# EAGLE library part DAC7612 (library Zoli2_2015-01-28)
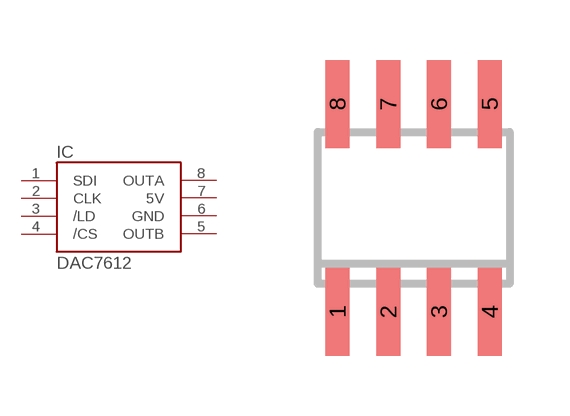
[diagram p46: symbol with the pads of SO8; footprint SO8]

Designator prefix IC

## DAC7612U  [SO8]
1  SDI  in
2  CLK  in
3  /LD  in
4  /CS  in
5  OUTB  out
6  GND  pwr
7  5V  pwr
8  OUTA  out

## Footprint SO8 (pad centres in mm)
smd 0.6 x 2.2: 1 -1.905,-2.6; 2 -0.635,-2.6; 3 0.635,-2.6; 4 1.905,-2.6; 5 1.905,2.6; 6 0.635,2.6; 7 -0.635,2.6; 8 -1.905,2.6